# EAGLE library part ABK-PRO-MINI2 (library Arduino-clone)
ABK Pro-Mini Arduino Clone https://ae01.alicdn.com/kf/UT8x5o_XMXXXXagOFbXo.jpg
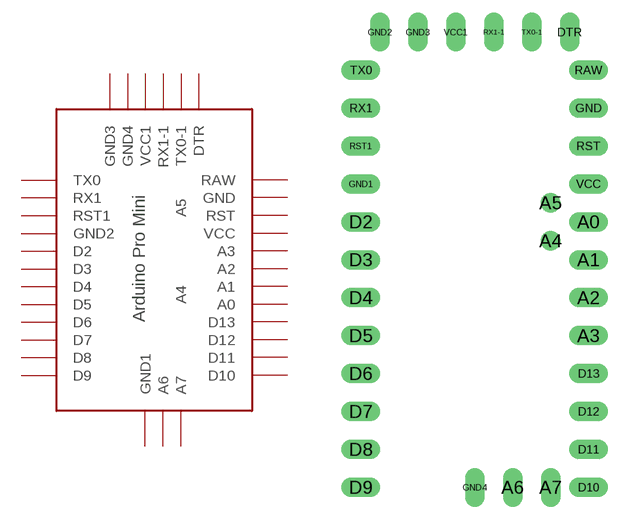
[diagram p5: symbol with the pads of ABK-PRO-MINI2; footprint ABK-PRO-MINI2]

Designator prefix -

## ABK-PRO-MINI2  [ABK-PRO-MINI2]
A0  A0
A1  A1
A2  A2
A3  A3
A4  A4
A5  A5
A6  A6
A7  A7
D2  D2
D3  D3
D4  D4
D5  D5
D6  D6
D7  D7
D8  D8
D9  D9
D10  D10
D11  D11
D12  D12
D13  D13
DTR  DTR
GND  GND
GND1  GND2
GND2  GND3
GND3  GND4
GND4  GND1
RAW  RAW
RST  RST
RST1  RST1
RX1  RX1
RX1-1  RX1-1
TX0  TX0
TX0-1  TX0-1
VCC  VCC
VCC1  VCC1

## Footprint ABK-PRO-MINI2 (pad centres in mm)
ABK-PRO-MINI2
drill 0.8 long: A0 10.16,-3.81; A1 10.16,-6.35; A2 10.16,-8.89; A3 10.16,-11.43; A6 5.08,-21.59; A7 7.62,-21.59; D2 -5.08,-3.81; D3 -5.08,-6.35; D4 -5.08,-8.89; D5 -5.08,-11.43; D6 -5.08,-13.97; D7 -5.08,-16.51; D8 -5.08,-19.05; D9 -5.08,-21.59; D10 10.16,-21.59; D11 10.16,-19.05; D12 10.16,-16.51; D13 10.16,-13.97; DTR 8.89,8.89; GND 10.16,3.81; GND1 -5.08,-1.27; GND2 -3.81,8.89; GND3 -1.27,8.89; GND4 2.54,-21.59; RAW 10.16,6.35; RST 10.16,1.27; RST1 -5.08,1.27; RX1 -5.08,3.81; RX1-1 3.81,8.89; TX0 -5.08,6.35; TX0-1 6.35,8.89; VCC 10.16,-1.27; VCC1 1.27,8.89
drill 0.8: A4 7.62,-5.08; A5 7.62,-2.54